# EAGLE library part CONNECTOR_USB_10103594 (library Skematik)
USB(2.0) Micro-B, RCPT, 5POS, SMD-THT-R/A Datasheet <https://cdn.amphenol-icc.com/media/wysiwyg/files/documentation/datasheet/inputoutput/io_usb_micro.pdf> Drawing <https://cdn.amphenol-icc.com/media/wysiwyg/files/drawing/10103594.pdf>
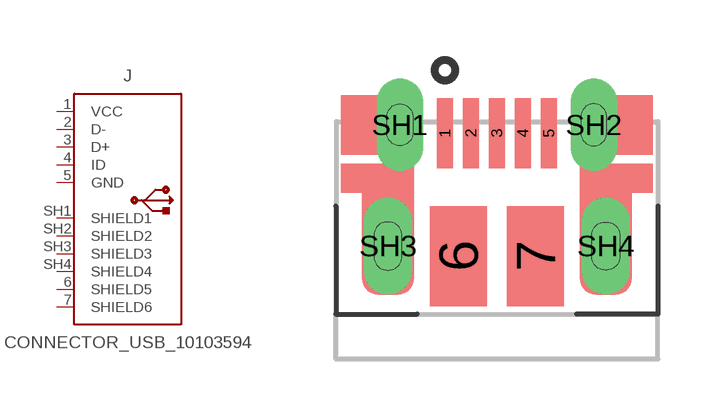
[diagram p4: symbol with the pads of CONNECTOR_USB_10103594; footprint CONNECTOR_USB_10103594]

Designator prefix J

## CONNECTOR_USB_10103594 (CATEGORY: Connectors; CONTACTS: 5; CURRENT-RATING: 1.8A; DESCRIPTION: CONN RCPT USB2.0 MICRO B SMD R/A; GENDER: Receptacle; MANUFACTURER: Amphenol ICC (FCI); MOUNT_TYPE: R/A; MPN: 10103594-0001LF; OPERATING_TEMPERATURE: -30°C ~ 80°C; PART_STATUS: ACTIVE; ROHS_COMPLIANT: COMPLIANT; SUB_CATEGORY: USB; TYPE: USB-micro B; VOLTAGE-RATING: 100VAC)  [CONNECTOR_USB_10103594]
1  VCC  pwr
2  D-
3  D+
4  ID
5  GND  pwr
6  SHIELD5  sup
7  SHIELD6  sup
SH1  SHIELD1  sup
SH2  SHIELD2  sup
SH3  SHIELD3  sup
SH4  SHIELD4  sup

## Footprint CONNECTOR_USB_10103594 (pad centres in mm)
smd 0.4 x 1.75: 1 -1.3,2.825; 2 -0.65,2.825; 3 0,2.825; 4 0.65,2.825; 5 1.3,2.825
smd 1.425 x 2.5: 6 -0.963,-0.25; 7 0.963,-0.25
drill 0.65 pad 0.73 long: SH1 -2.425,3.03; SH2 2.425,3.03
drill 0.7 long: SH3 -2.725,0; SH4 2.725,0